# EAGLE library part LTM8054* (library uModule-Buck-Boost)
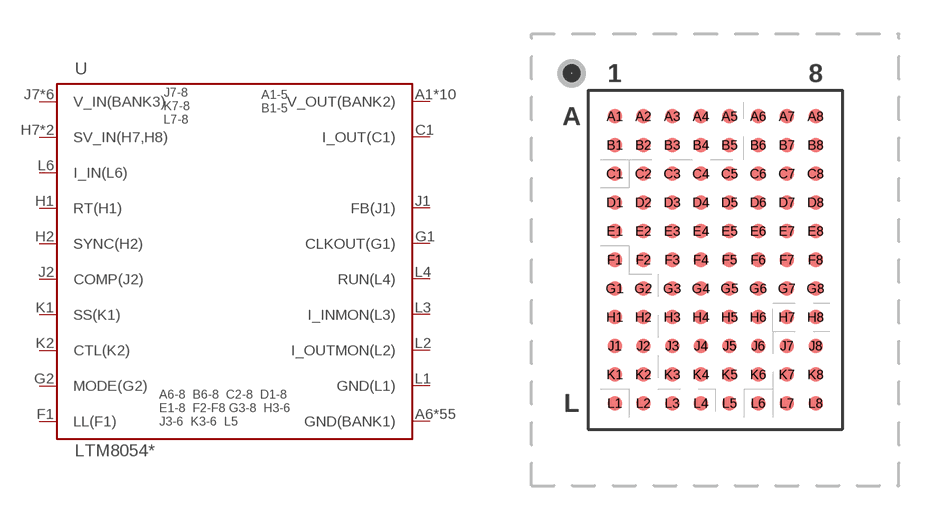
[diagram p1: symbol with the pads of BGA88; footprint BGA88]

Designator prefix U

## LTM8054EY#PBF (MFG: Analog Devices; MPN: LTM8054EY3PBF; OPERATING_TEMP: 0 to +125C; PACKAGE: BGA88; TEMP_RANGE: -55 to +125C; VALUE: LTM8054), LTM8054IY (MFG: Analog Devices; MPN: LTM8054IY; OPERATING_TEMP: -40 to +125C; PACKAGE: BGA88; TEMP_RANGE: -55 to +125C; VALUE: LTM8054), LTM8054IY#PBF (MFG: Analog Devices; MPN: LTM8054IY#PBF; OPERATING_TEMP: -40 to +125C; PACKAGE: BGA88; TEMP_RANGE: -55 to +125C; VALUE: LTM8054), LTM8054MPY (MFG: Analog Devices; MPN: LTM8054MPY; OPERATING_TEMP: -55 to +125C; PACKAGE: BGA88; TEMP_RANGE: -55 to +125C; VALUE: LTM8054), LTM8054MPY#PBF (MFG: Analog Devices; MPN: LTM8054MPY#PBF; OPERATING_TEMP: -55 to +125C; PACKAGE: BGA88; TEMP_RANGE: -55 to +125C; VALUE: LTM8054)  [BGA88]
A1  V_OUT(BANK2)
A2  V_OUT(BANK2)
A3  V_OUT(BANK2)
A4  V_OUT(BANK2)
A5  V_OUT(BANK2)
A6  GND(BANK1)
A7  GND(BANK1)
A8  GND(BANK1)
B1  V_OUT(BANK2)
B2  V_OUT(BANK2)
B3  V_OUT(BANK2)
B4  V_OUT(BANK2)
B5  V_OUT(BANK2)
B6  GND(BANK1)
B7  GND(BANK1)
B8  GND(BANK1)
C1  I_OUT(C1)
C2  GND(BANK1)
C3  GND(BANK1)
C4  GND(BANK1)
C5  GND(BANK1)
C6  GND(BANK1)
C7  GND(BANK1)
C8  GND(BANK1)
D1  GND(BANK1)
D2  GND(BANK1)
D3  GND(BANK1)
D4  GND(BANK1)
D5  GND(BANK1)
D6  GND(BANK1)
D7  GND(BANK1)
D8  GND(BANK1)
E1  GND(BANK1)
E2  GND(BANK1)
E3  GND(BANK1)
E4  GND(BANK1)
E5  GND(BANK1)
E6  GND(BANK1)
E7  GND(BANK1)
E8  GND(BANK1)
F1  LL(F1)
F2  GND(BANK1)
F3  GND(BANK1)
F4  GND(BANK1)
F5  GND(BANK1)
F6  GND(BANK1)
F7  GND(BANK1)
F8  GND(BANK1)
G1  CLKOUT(G1)
G2  MODE(G2)
G3  GND(BANK1)
G4  GND(BANK1)
G5  GND(BANK1)
G6  GND(BANK1)
G7  GND(BANK1)
G8  GND(BANK1)
H1  RT(H1)
H2  SYNC(H2)
H3  GND(BANK1)
H4  GND(BANK1)
H5  GND(BANK1)
H6  GND(BANK1)
H7  SV_IN(H7,H8)
H8  SV_IN(H7,H8)
J1  FB(J1)
J2  COMP(J2)
J3  GND(BANK1)
J4  GND(BANK1)
J5  GND(BANK1)
J6  GND(BANK1)
J7  V_IN(BANK3)
J8  V_IN(BANK3)
K1  SS(K1)
K2  CTL(K2)
K3  GND(BANK1)
K4  GND(BANK1)
K5  GND(BANK1)
K6  GND(BANK1)
K7  V_IN(BANK3)
K8  V_IN(BANK3)
L1  GND(L1)
L2  I_OUTMON(L2)
L3  I_INMON(L3)
L4  RUN(L4)
L5  GND(BANK1)
L6  I_IN(L6)
L7  V_IN(BANK3)
L8  V_IN(BANK3)

## Footprint BGA88 (pad centres in mm)
smd 0.635 x 0.635: A1 -4.445,6.35; A2 -3.175,6.35; A3 -1.905,6.35; A4 -0.635,6.35; A5 0.635,6.35; A6 1.905,6.35; A7 3.175,6.35; A8 4.445,6.35; B1 -4.445,5.08; B2 -3.175,5.08; B3 -1.905,5.08; B4 -0.635,5.08; B5 0.635,5.08; B6 1.905,5.08; B7 3.175,5.08; B8 4.445,5.08; C1 -4.445,3.81; C2 -3.175,3.81; C3 -1.905,3.81; C4 -0.635,3.81; C5 0.635,3.81; C6 1.905,3.81; C7 3.175,3.81; C8 4.445,3.81; D1 -4.445,2.54; D2 -3.175,2.54; D3 -1.905,2.54; D4 -0.635,2.54; D5 0.635,2.54; D6 1.905,2.54; D7 3.175,2.54; D8 4.445,2.54; E1 -4.445,1.27; E2 -3.175,1.27; E3 -1.905,1.27; E4 -0.635,1.27; E5 0.635,1.27; E6 1.905,1.27; E7 3.175,1.27; E8 4.445,1.27; F1 -4.445,0; F2 -3.175,0; F3 -1.905,0; F4 -0.635,0; F5 0.635,0; F6 1.905,0; F7 3.175,0; F8 4.445,0; G1 -4.445,-1.27; G2 -3.175,-1.27; G3 -1.905,-1.27; G4 -0.635,-1.27; G5 0.635,-1.27; G6 1.905,-1.27; G7 3.175,-1.27; G8 4.445,-1.27; H1 -4.445,-2.54; H2 -3.175,-2.54; H3 -1.905,-2.54; H4 -0.635,-2.54; H5 0.635,-2.54; H6 1.905,-2.54; H7 3.175,-2.54; H8 4.445,-2.54; J1 -4.445,-3.81; J2 -3.175,-3.81; J3 -1.905,-3.81; J4 -0.635,-3.81; J5 0.635,-3.81; J6 1.905,-3.81; J7 3.175,-3.81; J8 4.445,-3.81; K1 -4.445,-5.08; K2 -3.175,-5.08; K3 -1.905,-5.08; K4 -0.635,-5.08; K5 0.635,-5.08; K6 1.905,-5.08; K7 3.175,-5.08; K8 4.445,-5.08; L1 -4.445,-6.35; L2 -3.175,-6.35; L3 -1.905,-6.35; L4 -0.635,-6.35; L5 0.635,-6.35; L6 1.905,-6.35; L7 3.175,-6.35; L8 4.445,-6.35